# EAGLE library part 2601-1122 (library 2601-1122)
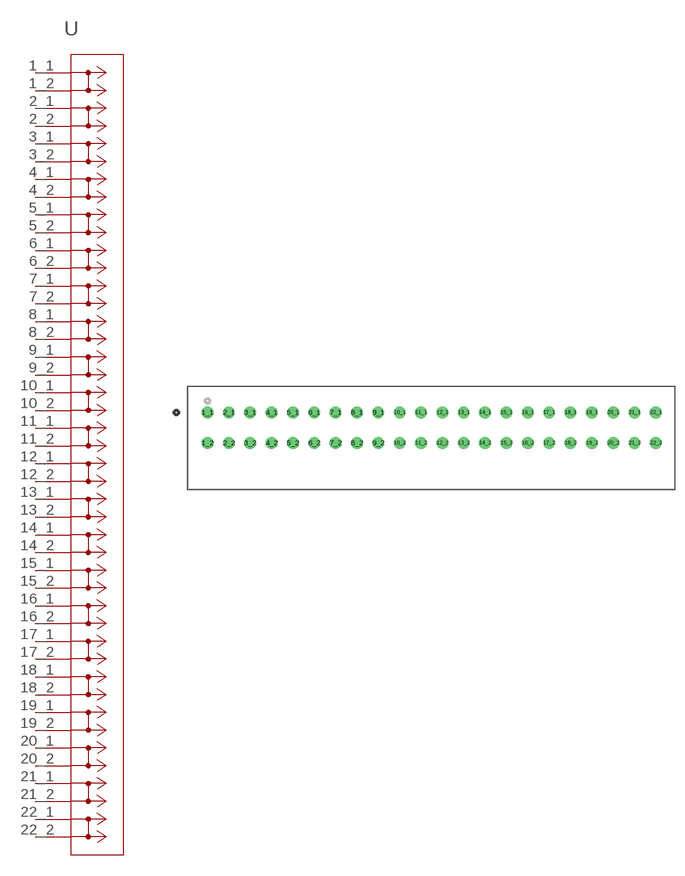
[diagram p0: symbol with the pads of CONN_2601-1114_WAG; footprint CONN_2601-1114_WAG]

Designator prefix -

## 2601-1122  [CONN_2601-1114_WAG]
1_1  1_1  pas
1_2  1_2  pas
2_1  2_1  pas
2_2  2_2  pas
3_1  3_1  pas
3_2  3_2  pas
4_1  4_1  pas
4_2  4_2  pas
5_1  5_1  pas
5_2  5_2  pas
6_1  6_1  pas
6_2  6_2  pas
7_1  7_1  pas
7_2  7_2  pas
8_1  8_1  pas
8_2  8_2  pas
9_1  9_1  pas
9_2  9_2  pas
10_1  10_1  pas
10_2  10_2  pas
11_1  11_1  pas
11_2  11_2  pas
12_1  12_1  pas
12_2  12_2  pas
13_1  13_1  pas
13_2  13_2  pas
14_1  14_1  pas
14_2  14_2  pas
15_1  15_1  pas
15_2  15_2  pas
16_1  16_1  pas
16_2  16_2  pas
17_1  17_1  pas
17_2  17_2  pas
18_1  18_1  pas
18_2  18_2  pas
19_1  19_1  pas
19_2  19_2  pas
20_1  20_1  pas
20_2  20_2  pas
21_1  21_1  pas
21_2  21_2  pas
22_1  22_1  pas
22_2  22_2  pas

## Footprint CONN_2601-1114_WAG (pad centres in mm)
drill 1.295 pad 1.803: 1_1 0,0; 1_2 0,-5; 2_1 3.5,0; 2_2 3.5,-5; 3_1 7,0; 3_2 7,-5; 4_1 10.5,0; 4_2 10.5,-5; 5_1 14,0; 5_2 14,-5; 6_1 17.5,0; 6_2 17.5,-5; 7_1 21,0; 7_2 21,-5; 8_1 24.5,0; 8_2 24.5,-5; 9_1 28,0; 9_2 28,-5; 10_1 31.5,0; 10_2 31.5,-5; 11_1 35,0; 11_2 35,-5; 12_1 38.5,0; 12_2 38.5,-5; 13_1 42,0; 13_2 42,-5; 14_1 45.5,0; 14_2 45.5,-5; 15_1 49,0; 15_2 49,-5; 16_1 52.5,0; 16_2 52.5,-5; 17_1 56,0; 17_2 56,-5; 18_1 59.5,0; 18_2 59.5,-5; 19_1 63,0; 19_2 63,-5; 20_1 66.5,0; 20_2 66.5,-5; 21_1 70,0; 21_2 70,-5; 22_1 73.5,0; 22_2 73.5,-5